# Altium footprint library QFN-16 (3x3).PcbLib: 1 footprints
Each footprint in its own frame and in the unit in brackets; x right, y up, seen from the top. Pads: shape width x height; smd on the part's side, far side on the other; paste and mask are expansions set on the pad; w line width, h text height; cw(c..) or ccw(c..) is an arc to the next point about the centre after c.
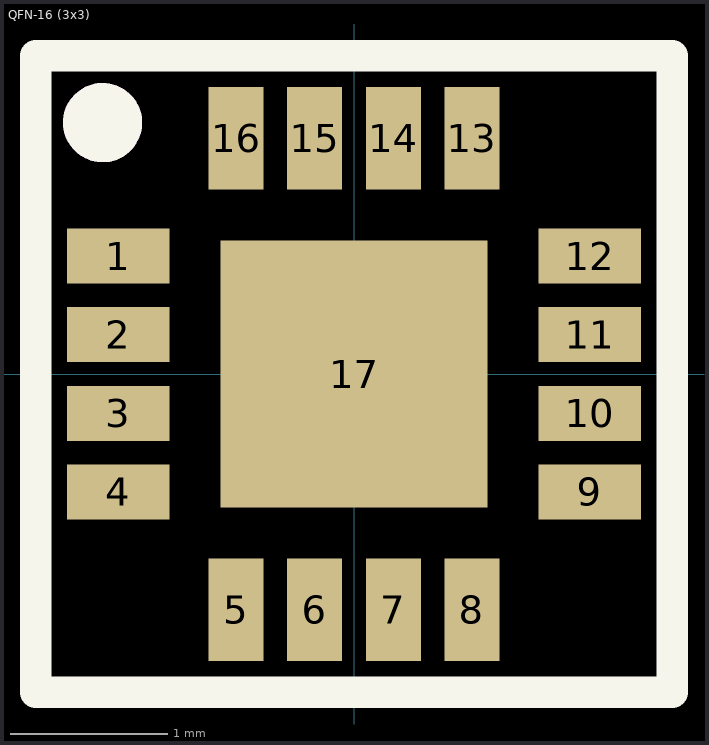
[diagram p0: the footprint, top view; thin cyan lines are the x and y axes]

## QFN-16 (3x3) [mm]
pads (17):
  rect 0.65x0.35 smd: 1(-1.5,0.75) 2(-1.5,0.25) 3(-1.5,-0.25) 4(-1.5,-0.75) 9(1.5,-0.75) 10(1.5,-0.25) 11(1.5,0.25) 12(1.5,0.75)
  rect 0.35x0.65 smd: 5(-0.75,-1.5) 6(-0.25,-1.5) 7(0.25,-1.5) 8(0.75,-1.5) 13(0.75,1.5) 14(0.25,1.5) 15(-0.25,1.5) 16(-0.75,1.5)
  rect 1.7x1.7 smd: 17(0,0)
Top Overlay:
  circle w0.254: c-1.6,1.6 r0.125
  lines w0.2: -2.025,-2.025 2.025,-2.025 2.025,2.025 -2.025,2.025 -2.025,-2.025
Top Assembly:
  circle w0.254: c-1.6,1.6 r0.125
  lines w0.1: -2.025,-2.025 2.025,-2.025 2.025,2.025 -2.025,2.025 -2.025,-2.025
  text "'.Designator'" at -3.965,-0.292 h0.7
3D body "ALSRobot-QFN16 3x3.STEP": height 0.9, standoff 0, extent -1.549,-1.521 1.493,1.521